# EAGLE library part SW_JUMP_2 (library Misaka-Connector)
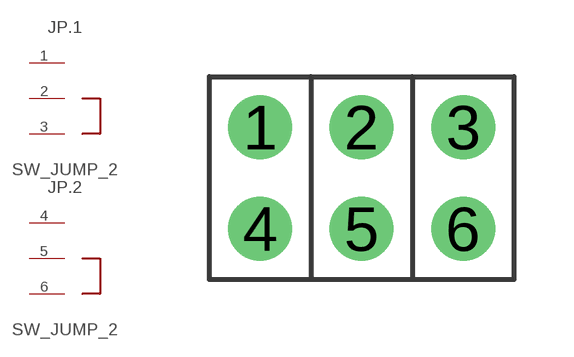
[diagram p11: symbol with the pads of PH3X02; footprint PH3X02]

Designator prefix JP; gates .1=SWITCH_JUMPER .2=SWITCH_JUMPER

## SW_JUMP_2  [PH3X02]
1  .1:1
2  .1:2
3  .1:3
4  .2:1
5  .2:2
6  .2:3

## Footprint PH3X02 (pad centres in mm)
drill 1 pad 1.6: 1 -2.54,1.27; 2 0,1.27; 3 2.54,1.27; 4 -2.54,-1.27; 5 0,-1.27; 6 2.54,-1.27